# EAGLE library part LIB1 (library esp32_base_footprint)
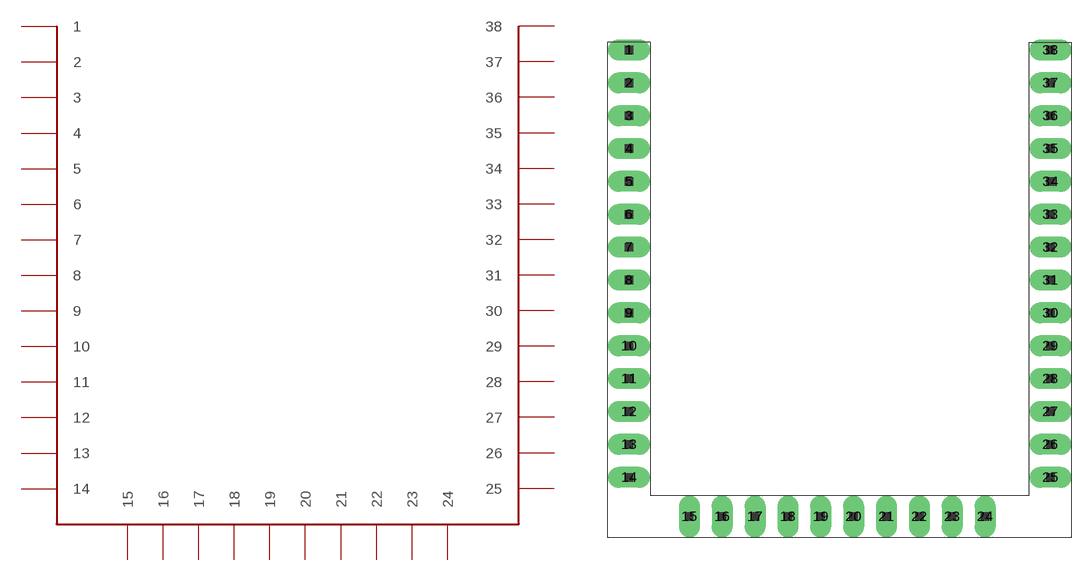
[diagram p0: symbol with the pads of 1X14MTA; footprint 1X14MTA]

Designator prefix -

## LIB1THROUGH_HOLE  [1X14MTA]

## LIB1OPTION_HOLE  [1X14MTA]
1  1
2  2
3  3
4  4
5  5
6  6
7  7
8  8
9  9
10  10
11  11
12  12
13  13
14  14
15  15
16  16
17  17
18  18
19  19
20  20
21  21
22  22
23  23
24  24
25  25
26  26
27  27
28  28
29  29
30  30
31  31
32  32
33  33
34  34
35  35
36  36
37  37
38  38

## LIB1SHIV_KUMAR  [1X14MTA]
Pads as for 1X14MTA

## Footprint 1X14MTA (pad centres in mm)
AMP MTA connector
drill 1.676 long: 1 -27.94,23.216; 2 -27.94,19.253; 3 -27.94,15.291; 4 -27.94,11.328; 5 -27.94,7.366; 6 -27.94,3.404; 7 -27.94,-0.559; 8 -27.94,-4.521; 9 -27.94,-8.484; 10 -27.94,-12.446; 11 -27.94,-16.408; 12 -27.94,-20.371; 13 -27.94,-24.333; 14 -27.94,-28.296; 15 -20.676,-33.02; 16 -16.713,-33.02; 17 -12.751,-33.02; 18 -8.788,-33.02; 19 -4.826,-33.02; 20 -0.864,-33.02; 21 3.099,-33.02; 22 7.061,-33.02; 23 11.024,-33.02; 24 14.986,-33.02; 25 22.86,-28.296; 26 22.86,-24.333; 27 22.86,-20.371; 28 22.86,-16.408; 29 22.86,-12.446; 30 22.86,-8.484; 31 22.86,-4.521; 32 22.86,-0.559; 33 22.86,3.404; 34 22.86,7.366; 35 22.86,11.328; 36 22.86,15.291; 37 22.86,19.253; 38 22.86,23.216